# EAGLE library part REPRO-EX (library ampex)
REPRO-EX PCB
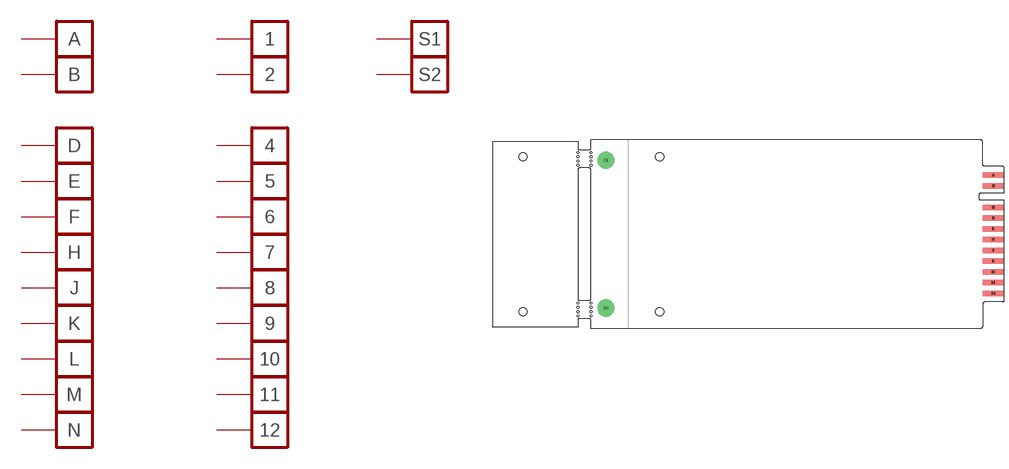
[diagram p20: symbol with the pads of REPRO-EX; footprint REPRO-EX]

Designator prefix PCB; gates A=FPIN B=FPIN D=FPIN E=FPIN F=FPIN H=FPIN J=FPIN K=FPIN L=FPIN M=FPIN N=FPIN 1=FPIN 2=FPIN 4=FPIN 5=FPIN 6=FPIN 7=FPIN 8=FPIN 9=FPIN 10=FPIN 11=FPIN 12=FPIN S1=FPIN S2=FPIN

## REPRO-EX  [REPRO-EX]
1  1:P  pas
2  2:P  pas
4  4:P  pas
5  5:P  pas
6  6:P  pas
7  7:P  pas
8  8:P  pas
9  9:P  pas
10  10:P  pas
11  11:P  pas
12  12:P  pas
A  A:P  pas
B  B:P  pas
D  D:P  pas
E  E:P  pas
F  F:P  pas
H  H:P  pas
J  J:P  pas
K  K:P  pas
L  L:P  pas
M  M:P  pas
N  N:P  pas
S1  S1:P  pas
S2  S2:P  pas

## Footprint REPRO-EX (pad centres in mm)
smd 7.62 x 2.032 bottom: 1 3.804,21.793; 2 3.804,17.831; 4 3.804,9.906; 5 3.804,5.944; 6 3.804,1.981; 7 3.804,-1.981; 8 3.804,-5.944; 9 3.804,-9.906; 10 3.804,-13.868; 11 3.804,-17.831; 12 3.804,-21.793
smd 7.62 x 2.032: A 3.804,21.793; B 3.804,17.831; D 3.804,9.906; E 3.804,5.944; F 3.804,1.981; H 3.804,-1.981; J 3.804,-5.944; K 3.804,-9.906; L 3.804,-13.868; M 3.804,-17.831; N 3.804,-21.793
drill 3.048 pad 6.35: S1 -139.179,27.241; S2 -139.179,-27.241
hole 0.66 at -149.542,30.163
hole 0.66 at -144.78,30.163
hole 0.66 at -149.542,-30.163
hole 0.66 at -144.78,-30.163
hole 0.66 at -149.542,28.575
hole 0.66 at -144.78,28.575
hole 0.66 at -149.542,-28.575
hole 0.66 at -144.78,-28.575
hole 0.66 at -149.542,26.988
hole 0.66 at -144.78,26.988
hole 0.66 at -149.542,-26.988
hole 0.66 at -144.78,-26.988
hole 3.048 at -119.38,28.575
hole 3.048 at -119.38,-28.575
hole 3.048 at -169.863,28.575
hole 3.048 at -169.863,-28.575
hole 0.66 at -149.542,25.4
hole 0.66 at -144.78,25.4
hole 0.66 at -149.542,-25.4
hole 0.66 at -144.78,-25.4